# Altium footprint library misc.PcbLib: 32 footprints (part 1 of 2)
Each footprint in its own frame and in the unit in brackets; x right, y up, seen from the top. Pads: shape width x height; smd on the part's side, far side on the other; paste and mask are expansions set on the pad; w line width, h text height; cw(c..) or ccw(c..) is an arc to the next point about the centre after c.
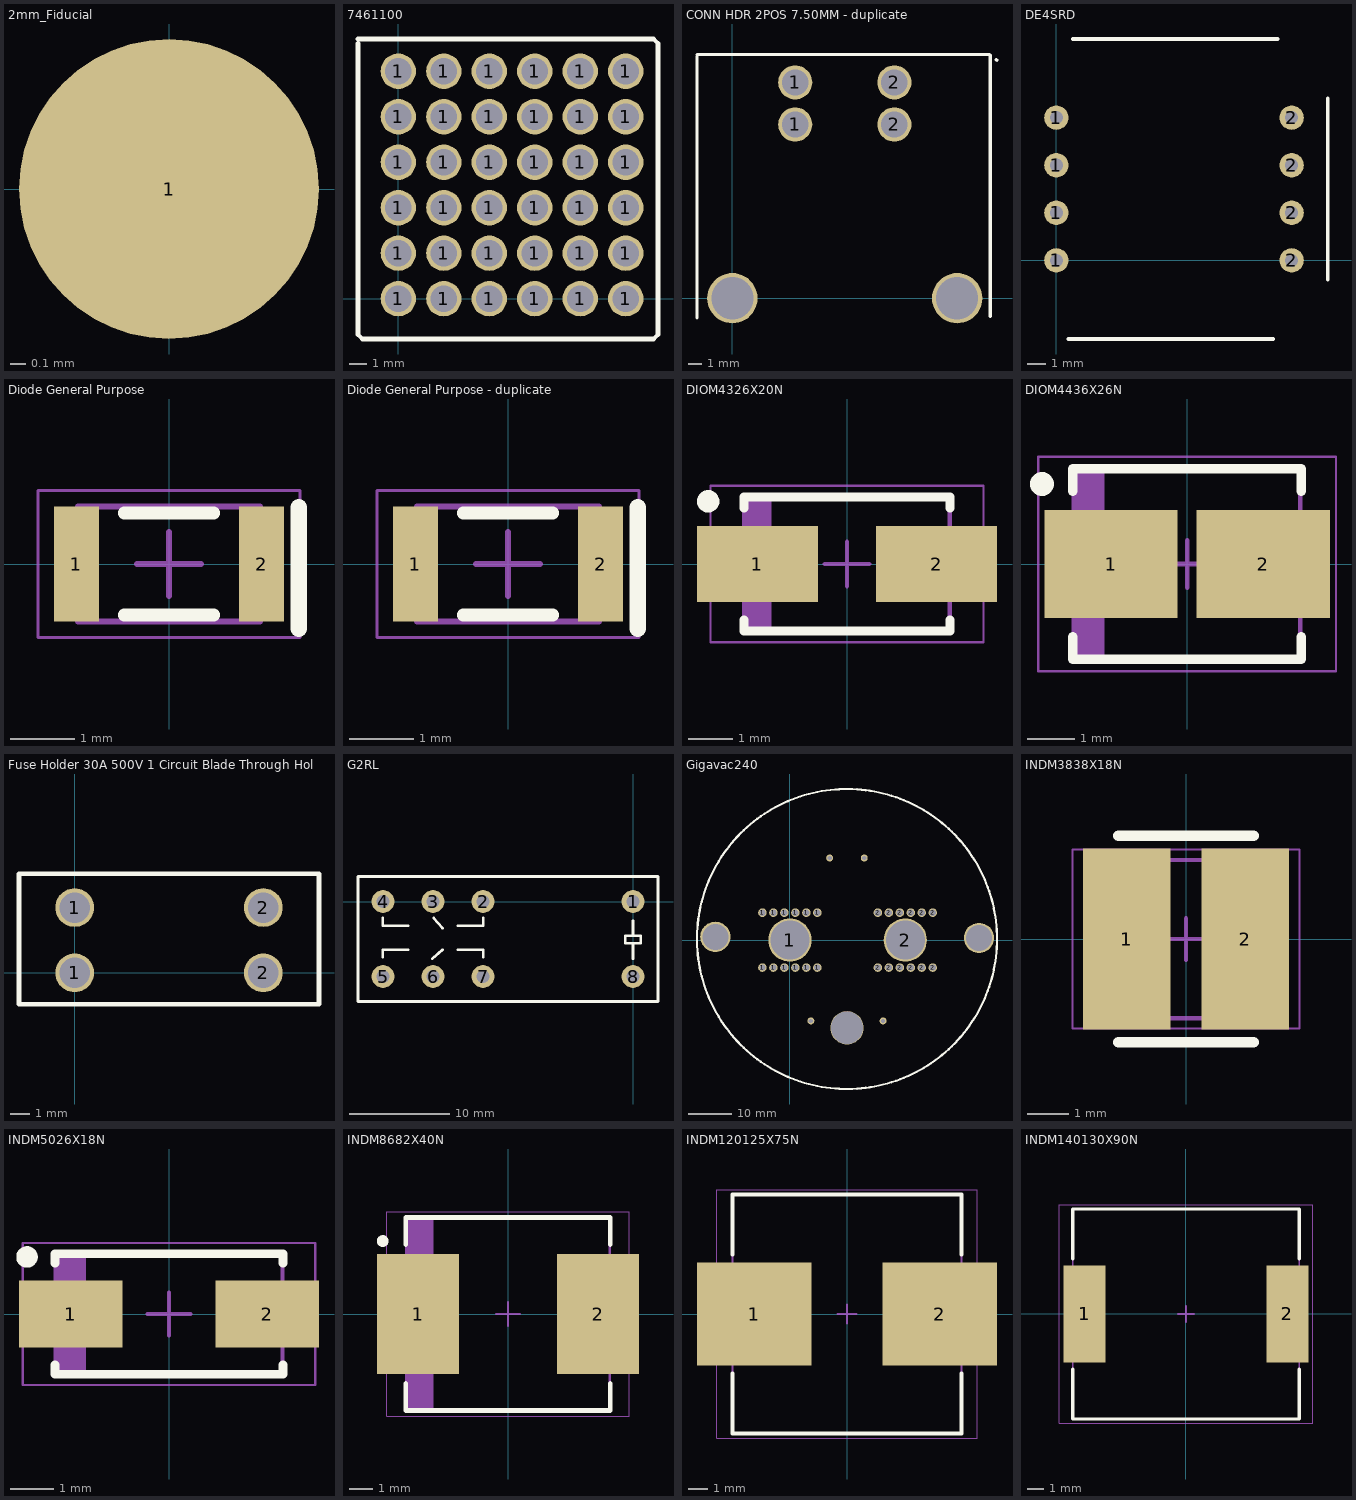
[diagram p0: the footprints below, top view; thin cyan lines are the x and y axes]

## 2mm_Fiducial [mm]
pads (1):
  round 2 smd: 1(0,0)

## 7461100 [mm]
pads (36):
  round 1.975 / inner round 1.6 / far side round 1.975 hole 1.475: 1(0,0) 1(0,2.54) 1(0,5.08) 1(0,7.62) 1(0,10.16) 1(0,12.7) 1(2.54,0) 1(2.54,2.54) 1(2.54,5.08) 1(2.54,7.62) 1(2.54,10.16) 1(2.54,12.7) 1(5.08,0) 1(5.08,2.54) 1(5.08,5.08) 1(5.08,7.62) 1(5.08,10.16) 1(5.08,12.7) 1(7.62,0) 1(7.62,2.54) 1(7.62,5.08) 1(7.62,7.62) 1(7.62,10.16) 1(7.62,12.7) 1(10.16,0) 1(10.16,2.54) 1(10.16,5.08) 1(10.16,7.62) 1(10.16,10.16) 1(10.16,12.7) 1(12.7,0) 1(12.7,2.54) 1(12.7,5.08) 1(12.7,7.62) 1(12.7,10.16) 1(12.7,12.7)
Top Overlay:
  lines w0.254: -2.25,14.25 -2.25,-2 -2,-2.25 14.25,-2.25 14.5,-2 14.5,14.25 14.25,14.5 -2.25,14.5
3D body "7461100 (rev1).stp": height 24, standoff -3.5, extent -1.75,-1.75 14.25,14.25

## CONN HDR 2POS 7.50MM - duplicate [mm]
pads (6):
  round 2.58 hole 1.98: 1(4.75,13.13) 1(4.75,16.31) 2(12.243,13.13) 2(12.243,16.31)
  round 3.81 hole 3.175: ""(0,0) ""(16.993,0)
Top Overlay:
  lines w0.254: -2.669,-1.492 -2.669,18.288 ; -2.667,18.415 19.431,18.415 ; 19.492,-1.365 19.492,18.354 ; 19.939,18.034 20,17.973
3D body "431605302.stp": height 15.12, standoff -3.6, extent -2.286,-3.048 18.796,16.739

## DE4SRD [mm]
pads (8):
  round 1.3 hole 0.7: 1(0,0) 1(0,2.54) 1(0,5.08) 1(0,7.62) 2(12.55,0) 2(12.55,2.54) 2(12.55,5.08) 2(12.55,7.62)
Top Overlay:
  lines w0.2: 0.635,-4.191 11.557,-4.191 ; 0.889,11.811 11.811,11.811 ; 14.478,-1.016 14.478,8.636
3D body: height 8.13, standoff -4.06, extent 4.699,5.08 4.699,5.08
3D body: height 8.13, standoff -4.06, extent 4.445,5.461 4.445,5.461
3D body "DE-4.STEP": height 10.6, standoff -4.6, extent -1.2,-3.7 13.8,11.3

## Diode General Purpose [mm] "Chip Diode, 2-Leads, Body 2.70x1.60mm, IPC Medium Density"
height 1.35
pads (2):
  rect 0.7x1.8 smd: 1(-1.45,0) 2(1.45,0)
Top Overlay:
  lines w0.2: -0.7,-0.8 0.7,-0.8 ; -0.7,0.8 0.7,0.8
  lines w0.254: 2.032,-1.016 2.032,0.889
Mechanical 13:
  lines w0.1: -1.425,-0.9 1.425,-0.9 1.425,0.9 -1.425,0.9 -1.425,-0.9
Mechanical 15:
  lines w0.05: -2.05,-1.15 2.05,-1.15 2.05,1.15 -2.05,1.15 -2.05,-1.15
  lines w0.1: -0.5,0 0.5,0 ; 0,-0.5 0,0.5
3D body: height 1.35, standoff 0, extent 1.275,-0.9 1.425,0.9
3D body: height 1.35, standoff 0, extent -1.425,-0.9 -1.275,0.9
3D body: height 1.35, standoff 0, extent -1.275,-0.9 1.275,0.9

## Diode General Purpose - duplicate [mm] "Chip Diode, 2-Leads, Body 2.70x1.60mm, IPC Medium Density"
height 1.35
pads (2):
  rect 0.7x1.8 smd: 1(-1.45,0) 2(1.45,0)
Top Overlay:
  lines w0.2: -0.7,-0.8 0.7,-0.8 ; -0.7,0.8 0.7,0.8
  lines w0.254: 2.032,-1.016 2.032,0.889
Mechanical 13:
  lines w0.1: -1.425,-0.9 1.425,-0.9 1.425,0.9 -1.425,0.9 -1.425,-0.9
Mechanical 15:
  lines w0.05: -2.05,-1.15 2.05,-1.15 2.05,1.15 -2.05,1.15 -2.05,-1.15
  lines w0.1: -0.5,0 0.5,0 ; 0,-0.5 0,0.5
3D body: height 1.35, standoff 0, extent 1.275,-0.9 1.425,0.9
3D body: height 1.35, standoff 0, extent -1.425,-0.9 -1.275,0.9
3D body: height 1.35, standoff 0, extent -1.275,-0.9 1.275,0.9

## DIOM4326X20N [mm] "Molded Diode, 2-Leads, Body 4.30x2.61mm, IPC Medium Density"
height 1.96
pads (2):
  rect 2.7x1.7 smd: 1(-2,0) 2(2,0)
Top Overlay:
  circle w0.25: c-3.1,1.4 r0.125
  lines w0.2: -2.3,-1.25 -2.3,-1.5 2.3,-1.5 2.3,-1.25 ; -2.3,1.25 -2.3,1.5 2.3,1.5 2.3,1.25
Mechanical 13:
  rectangle: -2.3,-1.46 -1.681,1.46
  lines w0.1: -2.3,-1.46 2.3,-1.46 2.3,1.46 -2.3,1.46 -2.3,-1.46
Mechanical 15:
  lines w0.05: -3.05,-1.75 3.05,-1.75 3.05,1.75 -3.05,1.75 -3.05,-1.75
  lines w0.1: -0.5,0 0.5,0 ; 0,-0.5 0,0.5
3D body "DIOM4326X20N.step": height 1.96, standoff 0, extent -2.52,-1.46 2.52,1.46

## DIOM4436X26N [mm] "Molded Diode, 2-Leads, Body 4.40x3.62mm, IPC Medium Density"
height 2.61
pads (2):
  rect 2.8x2.26 smd: 1(-1.6,0) 2(1.6,0)
Top Overlay:
  circle w0.25: c-3.05,1.68 r0.125
  lines w0.2: -2.4,-1.53 -2.4,-2 2.4,-2 2.4,-1.53 ; -2.4,1.53 -2.4,2 2.4,2 2.4,1.53
Mechanical 13:
  rectangle: -2.375,-1.97 -1.736,1.97
  lines w0.1: -2.375,-1.97 -2.375,1.97 2.375,1.97 2.375,-1.97 -2.375,-1.97
Mechanical 15:
  lines w0.05: -3.125,-2.25 -3.125,2.25 3.125,2.25 3.125,-2.25 -3.125,-2.25
  lines w0.1: -0.5,0 0.5,0 ; 0,-0.5 0,0.5
3D body "DIOM4436X26N.step": height 2.61, standoff 0, extent -2.595,-1.97 2.595,1.97

## Fuse Holder 30A 500V 1 Circuit Blade Through Hole [mil]
pads (4):
  round 80 hole 63: 1(0,0) 1(0,135) 2(390,0) 2(390,135)
Top Overlay:
  lines w10: -115,-65 -115,37.5 -115,102.5 -115,205 505,205 505,147.5 505,61.25 505,2.5 505,-65 200,-65 -115,-65
3D body: height 290, standoff 110, extent -110,-60 505,200

## G2RL [mm]
height 15.5
pads (8):
  round 2.3 hole 1.3: 1(0,0) 2(-15,0) 3(-20,0) 4(-25,0) 5(-25,-7.5) 6(-20,-7.5) 7(-15,-7.5) 8(0,-7.5)
Top Overlay:
  lines w0.254: -25.019,-5.588 -25.019,-4.826 -22.479,-4.826 ; -25.019,-1.651 -25.019,-2.413 -22.479,-2.413 ; -20.066,-5.715 -19.05,-4.826 ; -19.939,-1.651 -19.05,-2.667 ; -17.526,-4.826 -14.986,-4.826 -14.986,-5.588 ; -17.526,-2.413 -14.986,-2.413 -14.986,-1.651 ; 0,-5.715 0,-4.191 ; 0,-1.905 0,-3.429 ; 0,-4.191 0.762,-4.191 0.762,-3.429 0,-3.429 ; 0,-4.191 -0.762,-4.191 -0.762,-3.429 0,-3.429 ; -27.5,-10 -27.5,2.5 2.5,2.5 2.5,-10 -27.5,-10
3D body: height 1.45, standoff 0, extent 2.413,-9.906 2.413,-9.906
3D body: height 15.7, standoff 0, extent -27.432,-9.906 2.413,2.413
3D body: height 1.45, standoff 0, extent -24.638,-9.525 -24.638,-9.525

## Gigavac240 [mm]
pads (33):
  round 1.975 / inner round 1.6 / far side round 1.975 hole 1.475: 1(-6.35,-6.35) 1(-6.35,6.35) 1(-3.81,-6.35) 1(-3.81,6.35) 1(-1.27,-6.35) 1(-1.27,6.35) 1(1.27,-6.35) 1(1.27,6.35) 1(3.81,-6.35) 1(3.81,6.35) 1(6.35,-6.35) 1(6.35,6.35) 2(20.35,-6.35) 2(20.35,6.35) 2(22.89,-6.35) 2(22.89,6.35) 2(25.43,-6.35) 2(25.43,6.35) 2(27.97,-6.35) 2(27.97,6.35) 2(30.51,-6.35) 2(30.51,6.35) 2(33.05,-6.35) 2(33.05,6.35)
  round 10 hole 9: 1(0,0) 2(26.7,0)
  round 1.6 hole 1: 3(4.85,-18.7) 4(21.55,-18.7) 5(9.2,19) 6(17.2,19)
  round 7 hole 6: ""(-17.25,0.762) ""(43.75,0.508)
  round 7.7 hole 7.5: ""(13.208,-20.3)
Top Overlay:
  circle w0.5: c13.208,0.254 r34.708
3D body "7462095 (rev1).stp": height 3.1, standoff -3.5, extent -8,-8 8,8
3D body "GV144_non aux_step_041217.STEP": height 59.41, standoff -5.56, extent -16.764,-29.718 43.18,30.226
3D body "7462095 (rev1).stp": height 3.1, standoff -3.5, extent 18.75,-8 34.75,8

## INDM3838X18N [mm] "Molded Inductor, 2-Leads, Body 3.80x3.80mm, IPC Medium Density"
height 1.8
pads (2):
  rect 2.1x4.35 smd: 1(-1.425,0) 2(1.425,0)
Top Overlay:
  lines w0.254: -1.619,-2.476 1.619,-2.476 ; -1.619,2.476 1.619,2.476
Mechanical 13:
  lines w0.1: -1.9,-1.9 -1.9,1.9 1.9,1.9 1.9,-1.9 -1.9,-1.9
Mechanical 15:
  lines w0.05: -2.725,-2.15 -2.725,2.15 2.725,2.15 2.725,-2.15 -2.725,-2.15
  lines w0.1: -0.5,0 0.5,0 ; 0,-0.5 0,0.5
3D body "INDM3838X18N.step": height 1.8, standoff 0, extent -2.12,-2.125 2.12,2.125

## INDM5026X18N [mm] "Molded Inductor, 2-Leads, Body 5.04x2.59mm, IPC Medium Density"
height 1.8
pads (2):
  rect 2.4x1.55 smd: 1(-2.286,0) 2(2.286,0)
Top Overlay:
  circle w0.25: c-3.3,1.325 r0.125
  lines w0.2: -2.65,-1.175 -2.65,-1.4 2.65,-1.4 2.65,-1.175 ; -2.65,1.175 -2.65,1.4 2.65,1.4 2.65,1.175
Mechanical 13:
  rectangle: -2.64,-1.395 -1.93,1.395
  lines w0.1: -2.64,-1.395 2.64,-1.395 2.64,1.395 -2.64,1.395 -2.64,-1.395
Mechanical 15:
  lines w0.05: -3.4,-1.65 3.4,-1.65 3.4,1.65 -3.4,1.65 -3.4,-1.65
  lines w0.1: -0.5,0 0.5,0 ; 0,-0.5 0,0.5
3D body "INDM5026X18N.step": height 1.8, standoff 0, extent -2.86,-1.395 2.86,1.395

## INDM8682X40N [mm] "Molded Inductor, 2-Leads, Body 8.64x8.18mm, IPC Medium Density"
height 4
pads (2):
  rect 3.5x5.1 smd: 1(-3.825,0) 2(3.825,0)
Top Overlay:
  circle w0.25: c-5.325,3.1 r0.125
  lines w0.2: -4.35,-2.95 -4.35,-4.1 4.35,-4.1 4.35,-2.95 ; -4.35,2.95 -4.35,4.1 4.35,4.1 4.35,2.95
Mechanical 13:
  rectangle: -4.32,-4.09 -3.158,4.09
  lines w0.1: -4.32,-4.09 4.32,-4.09 4.32,4.09 -4.32,4.09 -4.32,-4.09
Mechanical 15:
  lines w0.05: -5.15,-4.35 5.15,-4.35 5.15,4.35 -5.15,4.35 -5.15,-4.35
  lines w0.1: -0.5,0 0.5,0 ; 0,-0.5 0,0.5
3D body "INDM8682X40N.step": height 4, standoff 0, extent -4.54,-4.09 4.54,4.09

## INDM120125X75N [mm] "Molded Inductor, 2-Leads, Body 12.00x12.50mm, IPC Medium Density"
height 7.5
pads (2):
  rect 6x5.4 smd: 1(-4.85,0) 2(4.85,0)
Top Overlay:
  lines w0.2: -6,-3.1 -6,-6.25 6,-6.25 6,-3.1 ; -6,3.1 -6,6.25 6,6.25 6,3.1
Mechanical 13:
  lines w0.1: -6,-6.25 6,-6.25 6,6.25 -6,6.25 -6,-6.25
Mechanical 15:
  lines w0.05: -6.825,-6.5 6.825,-6.5 6.825,6.5 -6.825,6.5 -6.825,-6.5
  lines w0.1: -0.5,0 0.5,0 ; 0,-0.5 0,0.5
3D body "INDM120125X75N.step": height 7.5, standoff 0, extent -6.22,-6.25 6.22,6.25

## INDM140130X90N [mm] "Molded Inductor, 2-Leads, Body 14.00x13.00mm, IPC Medium Density"
height 9
pads (2):
  rect 2.6x6 smd: 1(-6.275,0) 2(6.275,0)
Top Overlay:
  lines w0.2: -7,-3.4 -7,-6.5 7,-6.5 7,-3.4 ; -7,3.4 -7,6.5 7,6.5 7,3.4
Mechanical 13:
  lines w0.1: -7,-6.5 7,-6.5 7,6.5 -7,6.5 -7,-6.5
Mechanical 15:
  lines w0.05: -7.825,-6.75 7.825,-6.75 7.825,6.75 -7.825,6.75 -7.825,-6.75
  lines w0.1: -0.5,0 0.5,0 ; 0,-0.5 0,0.5
3D body "INDM140130X90N.step": height 9, standoff 0, extent -7.22,-6.5 7.22,6.5